# Altium schematic symbol library Modules.SchLib: 1 symbol
Pins are listed as number, name and electrical type; pins without a type are passive.

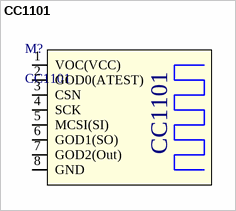
[diagram p0: symbol CC1101]

## CC1101
designator M?
Manufacturer Part Num: CC1101
footprint CC1101
pins: 1 VOC(VCC), 2 GOD0(ATEST), 3 CSN, 4 SCK, 5 MCSI(SI), 6 GOD1(SO), 7 GOD2(Out), 8 GND